# Altium footprint library FootPrintLib_6.PcbLib: 588 footprints (part 1 of 37)
Each footprint in its own frame and in the unit in brackets; x right, y up, seen from the top. Pads: shape width x height; smd on the part's side, far side on the other; paste and mask are expansions set on the pad; w line width, h text height; cw(c..) or ccw(c..) is an arc to the next point about the centre after c.
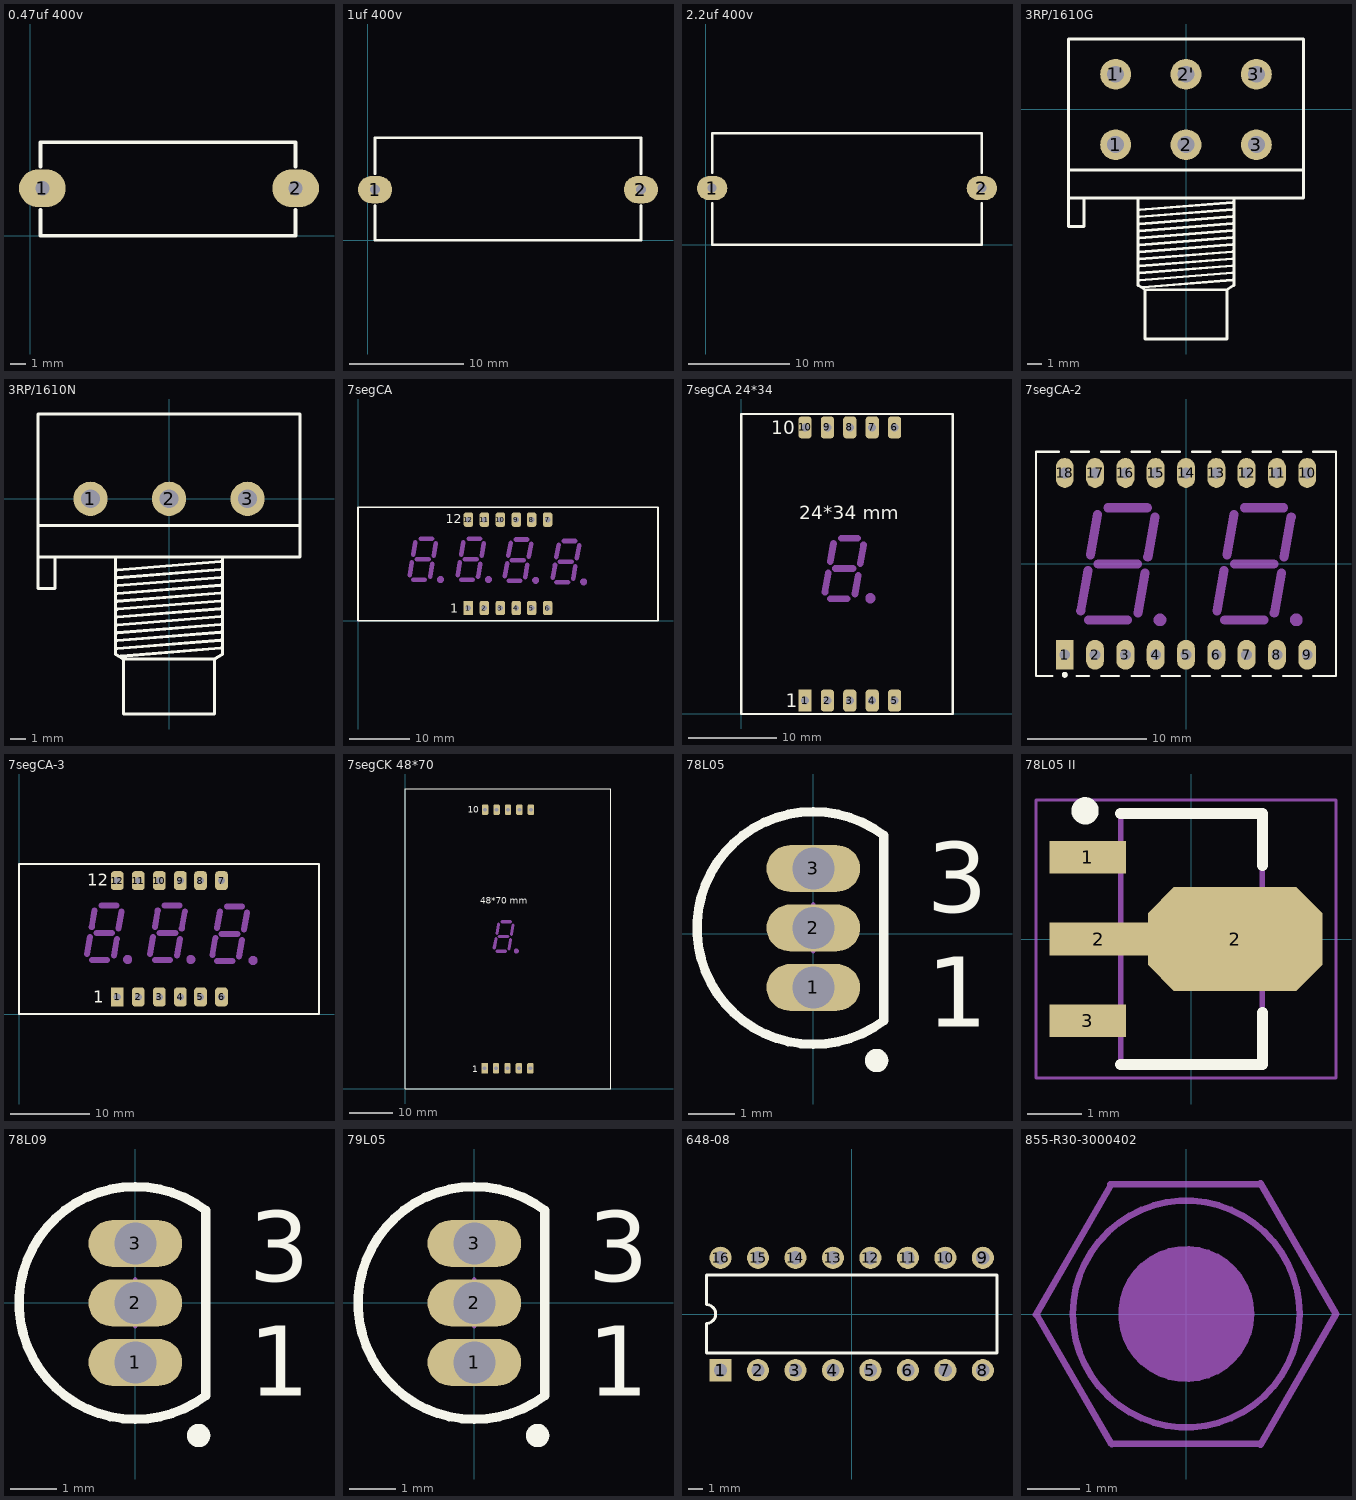
[diagram p0: the footprints below, top view; thin cyan lines are the x and y axes]

## 0.47uf 400v [mm] "17*6mm"
height 11
pads (2):
  oval 3x2.4 hole 0.9: 1(0.762,3.048) 2(17.018,3.048)
Top Overlay:
  lines w0.254: 0.635,1.651 0.635,0 17,0 ; 0.635,4.445 0.635,6 17,6 17,4.445 ; 17.018,0 17.018,1.651

## 1uf 400v [mm] "24*9mm"
height 15
pads (2):
  oval 3x2.4 hole 0.9: 1(0.635,4.445) 2(24.003,4.445)
Top Overlay:
  lines w0.254: 0.635,3.048 0.635,0 24,0 ; 0.635,5.842 0.635,9 24,9 ; 24.003,0 24.003,3.048 ; 24.003,5.842 24.003,8.968

## 2.2uf 400v [mm] "28*11mm"
height 18
pads (2):
  oval 3x2.4 hole 0.9: 1(0.635,5.588) 2(27.305,5.588)
Top Overlay:
  lines w0.254: 0.635,4.064 0.635,0 27.305,0 27.305,4.064 ; 0.635,7.112 0.635,11 27.305,11 27.305,7.112

## 3RP/1610G [mm]
pads (6):
  round 2.184 hole 1.2: 1(-5,-2.5) 1'(-5,2.5) 2(0,-2.5) 2'(0,2.5) 3(5,-2.5) 3'(5,2.5)
Top Overlay:
  lines w0.203: -8.35,-4.3 8.35,-4.3 ; -7.25,-6.4 -7.25,-8.3 -8.35,-8.3 -8.35,-6.3 ; -3.4,-6.4 -3.4,-12.5 -2.9,-12.8 ; -3.3,-12.125 3.3,-11.6 ; -3.3,-11.625 3.3,-11.1 ; -3.3,-11.125 3.3,-10.6 ; -3.3,-10.625 3.3,-10.1 ; -3.3,-10.125 3.3,-9.6 ; -3.3,-9.625 3.3,-9.1 ; -3.3,-9.125 3.3,-8.6 ; -3.3,-8.625 3.3,-8.1 ; -3.3,-8.125 3.3,-7.6 ; -3.3,-7.625 3.3,-7.1 ; -3.3,-7.125 3.3,-6.6 ; -3.075,-12.625 3.3,-12.1 ; 3.4,-6.4 3.4,-12.5 2.9,-12.8 ; -8.35,-6.3 -8.35,5 8.35,5 8.35,-6.3 -8.35,-6.3 ; -2.9,-12.8 2.9,-12.8 ; -2.9,-12.8 -2.9,-16.3 2.9,-16.3 2.9,-12.8
3D body "SW3dPS-ALPHA-potentiometer stereo PCB mount.STEP": height 21.2, standoff -3.3, extent -8.5,-36.033 8.5,4.817

## 3RP/1610N [mil]
pads (3):
  round 86 hole 47.24: 1(-196.85,0) 2(0,0) 3(196.85,0)
Top Overlay:
  lines w8: -328.74,-66.93 328.74,-66.93 ; -285.43,-149.61 -285.43,-224.41 -328.74,-224.41 -328.74,-145.67 ; -133.86,-149.61 -133.86,-389.76 -114.17,-401.57 ; -129.92,-375 129.92,-354.33 ; -129.92,-355.31 129.92,-334.65 ; -129.92,-335.63 129.92,-314.96 ; -129.92,-315.94 129.92,-295.28 ; -129.92,-296.26 129.92,-275.59 ; -129.92,-276.57 129.92,-255.91 ; -129.92,-256.89 129.92,-236.22 ; -129.92,-237.2 129.92,-216.54 ; -129.92,-217.52 129.92,-196.85 ; -129.92,-197.83 129.92,-177.16 ; -129.92,-178.15 129.92,-157.48 ; -121.06,-394.68 129.92,-374.02 ; 133.86,-149.61 133.86,-389.76 114.17,-401.57 ; -328.74,-145.67 328.74,-145.67 328.74,212.6 -328.74,212.6 -328.74,-145.67 ; -114.17,-401.57 -114.17,-539.37 114.17,-539.37 114.17,-401.57 ; -114.17,-401.57 114.17,-401.57

## 7segCA [mm] "7seg-CA; 12 Leads"
height 19
pads (12):
  rect 1.6x2.4 hole 0.9: 1(18.415,2.159)
  rrect50% 1.6x2.4 hole 0.9: 2(21.082,2.159) 3(23.749,2.159) 4(26.416,2.159) 5(28.956,2.159) 6(31.623,2.159) 7(31.623,16.891) 8(28.956,16.891) 9(26.416,16.891) 10(23.749,16.891) 11(21.082,16.891) 12(18.415,16.891)
Top Overlay:
  lines w0.254: 50,0 0,0 0,19 50,19 ; 50.038,0 50.038,19
  text "12" at 14.605,16.256 h1.52
  text "1" at 15.367,1.397 h1.52
Mechanical 1:
  circle w0.86: c37.641,6.526 r0.15
  circle w0.86: c29.64,6.78 r0.15
  circle w0.86: c21.766,6.907 r0.15
  circle w0.86: c13.765,6.907 r0.15
  lines w0.762: 8.605,7.597 8.985,9.767 ; 9.215,11.047 9.575,13.127 ; 9.235,6.857 11.155,6.857 ; 9.791,10.287 11.799,10.287 ; 10.455,13.717 12.345,13.717 ; 12.015,7.397 12.385,9.527 ; 12.615,10.847 12.995,12.977 ; 16.606,7.597 16.986,9.767 ; 17.216,11.047 17.576,13.127 ; 17.236,6.857 19.156,6.857 ; 17.792,10.287 19.8,10.287 ; 18.456,13.717 20.346,13.717 ; 20.016,7.397 20.386,9.527 ; 20.616,10.847 20.996,12.977 ; 24.48,7.47 24.86,9.64 ; 25.09,10.92 25.45,13 ; 25.11,6.73 27.03,6.73 ; 25.666,10.16 27.674,10.16 ; 26.33,13.59 28.22,13.59 ; 27.89,7.27 28.26,9.4 ; 28.49,10.72 28.87,12.85 ; 32.481,7.216 32.861,9.386 ; 33.091,10.666 33.451,12.746 ; 33.111,6.476 35.031,6.476 ; 33.667,9.906 35.675,9.906 ; 34.331,13.336 36.221,13.336 ; 35.891,7.016 36.261,9.146 ; 36.491,10.466 36.871,12.596

## 7segCA 24*34 [mm] "7seg-CA; 10 Leads; 24*34mm"
height 34
pads (10):
  rect 1.5x2.5 hole 0.9: 1(7.239,1.524)
  rrect50% 1.5x2.5 hole 0.9: 2(9.779,1.524) 3(12.319,1.524) 4(14.859,1.524) 5(17.399,1.524) 6(17.399,32.512) 7(14.859,32.512) 8(12.319,32.512) 9(9.779,32.512) 10(7.239,32.512)
Top Overlay:
  lines w0.254: 0,34 0,0 24,0 ; 0,34.036 24.003,34.036 24.003,0
  text "1" at 5.08,0.762 h1.52
  text "10" at 3.429,31.75 h1.52
  text "24*34 mm" at 6.604,22.098 h1.52
Mechanical 1:
  circle w0.86: c14.654,13.13 r0.15
  lines w0.762: 9.494,13.82 9.874,15.99 ; 10.104,17.27 10.464,19.35 ; 10.124,13.08 12.044,13.08 ; 10.68,16.51 12.688,16.51 ; 11.344,19.94 13.234,19.94 ; 12.904,13.62 13.274,15.75 ; 13.504,17.07 13.884,19.2

## 7segCA-2 [mm] "7seg-CA; 18 Leads"
height 19
pads (18):
  rect 1.5x2.5 hole 0.9: 1(-10.16,-7.62)
  oval 1.5x2.5 hole 0.9: 2(-7.62,-7.62) 3(-5.08,-7.62) 4(-2.54,-7.62) 5(0,-7.62) 6(2.54,-7.62) 7(5.08,-7.62) 8(7.62,-7.62) 9(10.16,-7.62) 10(10.16,7.62) 11(7.62,7.62) 12(5.08,7.62) 13(2.54,7.62) 14(0,7.62) 15(-2.54,7.62) 16(-5.08,7.62) 17(-7.62,7.62) 18(-10.16,7.62)
Top Overlay:
  circle w0.25: c-10.16,-9.3 r0.125
  lines w0.2: -11.2,-9.398 -12.573,-9.398 -12.573,9.398 -10.68,9.398 ; -9.628,9.398 -8.128,9.398 ; -9.144,-9.398 -8.164,-9.398 ; -7.112,-9.398 -5.612,-9.398 ; -7.088,9.398 -5.588,9.398 ; -4.572,-9.398 -3.072,-9.398 ; -4.548,9.398 -3.048,9.398 ; -2.032,-9.398 -0.532,-9.398 ; -2.008,9.398 -0.508,9.398 ; 0.508,-9.398 2.008,-9.398 ; 0.532,9.398 2.032,9.398 ; 3.048,-9.398 4.548,-9.398 ; 3.072,9.398 4.572,9.398 ; 5.588,-9.398 7.088,-9.398 ; 5.588,9.398 7.088,9.398 ; 8.152,-9.398 9.652,-9.398 ; 8.152,9.398 9.652,9.398 ; 10.68,-9.398 12.573,-9.398 12.573,9.398 10.68,9.398
Mechanical 1:
  circle w0.86: c-2.182,-4.7 r0.1
  circle w0.86: c9.248,-4.7 r0.1
  lines w0.762: -8.823,-3.935 -8.229,-0.562 ; -8.182,-4.7 -4.907,-4.7 ; -7.994,0.765 -7.401,4.137 ; -7.356,0 -4.074,0 ; -6.526,4.7 -3.248,4.7 ; -4.031,-4.136 -3.438,-0.763 ; -3.203,0.564 -2.61,3.938 ; 2.607,-3.935 3.201,-0.562 ; 3.248,-4.7 6.523,-4.7 ; 3.436,0.765 4.029,4.137 ; 4.074,0 7.356,0 ; 4.904,4.7 8.182,4.7 ; 7.399,-4.136 7.992,-0.763 ; 8.227,0.564 8.82,3.938

## 7segCA-3 [mm] "7seg-CA; 12 Leads"
height 19
pads (12):
  rect 1.6x2.4 hole 0.9: 1(12.446,2.159)
  rrect50% 1.6x2.4 hole 0.9: 2(15.113,2.159) 3(17.78,2.159) 4(20.447,2.159) 5(22.987,2.159) 6(25.654,2.159) 7(25.654,16.891) 8(22.987,16.891) 9(20.447,16.891) 10(17.78,16.891) 11(15.113,16.891) 12(12.446,16.891)
Top Overlay:
  lines w0.254: 0,0 38,0 38,19 0,19 0,0
  text "1" at 9.398,1.397 h1.52
  text "12" at 8.636,16.256 h1.52
Mechanical 1:
  circle w0.86: c13.765,6.907 r0.15
  circle w0.86: c21.766,6.907 r0.15
  circle w0.86: c29.64,6.78 r0.15
  lines w0.762: 8.605,7.597 8.985,9.767 ; 9.215,11.047 9.575,13.127 ; 9.235,6.857 11.155,6.857 ; 9.791,10.287 11.799,10.287 ; 10.455,13.717 12.345,13.717 ; 12.015,7.397 12.385,9.527 ; 12.615,10.847 12.995,12.977 ; 16.606,7.597 16.986,9.767 ; 17.216,11.047 17.576,13.127 ; 17.236,6.857 19.156,6.857 ; 17.792,10.287 19.8,10.287 ; 18.456,13.717 20.346,13.717 ; 20.016,7.397 20.386,9.527 ; 20.616,10.847 20.996,12.977 ; 24.48,7.47 24.86,9.64 ; 25.09,10.92 25.45,13 ; 25.11,6.73 27.03,6.73 ; 25.666,10.16 27.674,10.16 ; 26.33,13.59 28.22,13.59 ; 27.89,7.27 28.26,9.4 ; 28.49,10.72 28.87,12.85

## 7segCK 48*70 [mm] "7seg-CK; 10 Leads; 48*70mm"
height 70
pads (10):
  rect 1.5x2.5 hole 0.9: 1(18.542,4.826)
  rrect50% 1.5x2.5 hole 0.9: 2(21.209,4.826) 3(23.876,4.826) 4(26.543,4.826) 5(29.21,4.826) 6(29.337,65.151) 7(26.67,65.151) 8(24.003,65.151) 9(21.336,65.151) 10(18.669,65.151)
Top Overlay:
  lines w0.254: 0,0 0,69.977 48,69.977 48,0 0,0
  text "10" at 14.605,64.389 h1.52
  text "48*70 mm" at 17.526,43.18 h1.52
  text "1" at 15.621,3.937 h1.52
Mechanical 1:
  circle w0.86: c25.957,32.18 r0.15
  lines w0.762: 20.797,32.87 21.177,35.04 ; 21.407,36.32 21.767,38.4 ; 21.427,32.13 23.347,32.13 ; 21.983,35.56 23.991,35.56 ; 22.647,38.99 24.537,38.99 ; 24.207,32.67 24.577,34.8 ; 24.807,36.12 25.187,38.25

## 78L05 [mm]
pads (3):
  oval 2x1 hole 0.9: 1(0,-1.143) 2(0,0.127) 3(0,1.397)
Top Overlay:
  circle w0.25: c1.35,-2.703 r0.125
  lines w0.2: 1.5,-1.853 cw(c0,0.127) 1.5,2.107 1.5,-1.853
  text "3" at 2.421,0.467 h1.5
  text "1" at 2.421,-1.979 h1.5
Mechanical 13:
  lines w0.1: 1.5,-1.853 cw(c0,0.127) 1.5,2.107 1.5,-1.853
Mechanical 15:
  lines w0.1: -0.5,0.127 0.5,0.127 ; 0,-0.373 0,0.627
3D body: height 4.95, standoff 0, extent -2.485,-2.368 1.501,2.622

## 78L05 II [mm]
pads (4):
  rect 1.4x0.6 smd: 1(-1.9,1.5) 3(-1.9,-1.5)
  rect 1.8x0.6 smd: 2(-1.7,0)
  oct 3.2x1.9 smd: 2(0.8,0)
Top Overlay:
  circle w0.25: c-1.95,2.35 r0.125
  lines w0.2: -1.3,-2.3 1.3,-2.3 1.3,-1.35 ; -1.3,2.3 1.3,2.3 1.3,1.35
Mechanical 13:
  lines w0.1: -1.3,-2.3 -1.3,2.3 1.3,2.3 1.3,-2.3 -1.3,-2.3
Mechanical 15:
  lines w0.05: -2.85,-2.55 -2.85,2.55 2.65,2.55 2.65,-2.55 -2.85,-2.55
  lines w0.1: -0.5,0 0.5,0 ; 0,-0.5 0,0.5
3D body: height 1.6, standoff 0, extent -1.3,-2.3 1.3,2.3

## 78L09 [mm]
pads (3):
  oval 2x1 hole 0.9: 1(0,-1.27) 2(0,0) 3(0,1.27)
Top Overlay:
  circle w0.25: c1.35,-2.83 r0.125
  lines w0.2: 1.5,-1.98 cw(c0,0) 1.5,1.98 1.5,-1.98
  text "3" at 2.421,0.467 h1.5
  text "1" at 2.421,-1.979 h1.5
Mechanical 13:
  lines w0.1: 1.5,-1.98 cw(c0,0) 1.5,1.98 1.5,-1.98
Mechanical 15:
  lines w0.1: -0.5,0 0.5,0 ; 0,-0.5 0,0.5
3D body: height 4.95, standoff 0, extent -2.485,-2.495 1.501,2.495

## 79L05 [mm]
pads (3):
  oval 2x1 hole 0.9: 1(0,-1.27) 2(0,0) 3(0,1.27)
Top Overlay:
  circle w0.25: c1.35,-2.83 r0.125
  lines w0.2: 1.5,-1.98 cw(c0,0) 1.5,1.98 1.5,-1.98
  text "1" at 2.421,-1.979 h1.5
  text "3" at 2.421,0.467 h1.5
Mechanical 13:
  lines w0.1: 1.5,-1.98 cw(c0,0) 1.5,1.98 1.5,-1.98
Mechanical 15:
  lines w0.1: -0.5,0 0.5,0 ; 0,-0.5 0,0.5
3D body: height 4.95, standoff 0, extent -2.485,-2.495 1.501,2.495

## 648-08 [mm] "DIP; 16 Leads; Row Spacing 7.62 mm; Pitch 2.54 mm"
height 4.44
pads (16):
  rect 1.5x1.5 hole 0.9: 1(-8.89,-3.81)
  round 1.5 hole 0.9: 2(-6.35,-3.81) 3(-3.81,-3.81) 4(-1.27,-3.81) 5(1.27,-3.81) 6(3.81,-3.81) 7(6.35,-3.81) 8(8.89,-3.81) 9(8.89,3.81) 10(6.35,3.81) 11(3.81,3.81) 12(1.27,3.81) 13(-1.27,3.81) 14(-3.81,3.81) 15(-6.35,3.81) 16(-8.89,3.81)
Top Overlay:
  lines w0.2: -9.85,-2.65 9.85,-2.65 9.85,2.65 -9.85,2.65 -9.85,0.635 cw(c-9.85,0) -9.85,-0.635 -9.85,-2.65

## 855-R30-3000402 [mm] "HARWiN Metric HEX Spacer; Threaded-Brass/Nickel; Male/Female; M3 X 04 mm"
height 4
Mechanical 2:
  circle w0.127: c0,0 r1.25
  circle w0.127: c0,0 r2.185
  region: -1.25,0 -1.25,-0.123 -1.202,-0.365 -1.108,-0.592 -0.971,-0.797 -0.797,-0.971 -0.592,-1.108 -0.365,-1.202 -0.123,-1.25 0,-1.25 0.123,-1.25 0.365,-1.202 0.592,-1.108 0.797,-0.971 0.971,-0.797 1.108,-0.592 1.202,-0.365 1.25,-0.123 1.25,0 1.25,0.123 1.202,0.365 1.108,0.592 0.971,0.797 0.797,0.971 0.592,1.108 0.365,1.202 0.123,1.25 0,1.25 -0.123,1.25 -0.365,1.202 -0.592,1.108 -0.797,0.971 -0.971,0.797 -1.108,0.592 -1.202,0.365 -1.25,0.123
  lines w0.127: -2.895,-0.015 -1.464,2.465 ; -2.87,-0.03 -1.438,-2.51 ; -1.464,2.5 1.432,2.5 ; -1.42,-2.5 1.432,-2.5 ; 1.432,-2.52 2.887,0 1.432,2.52
3D body "Metric Brass-Nickel HEX Spacer Male-Female M3 X 04 mm.STEP": height 4, standoff -6, extent -2.887,-2.5 2.887,2.5